# Altium integrated library Analog Devices Data Converters Digital-to-Analog Converters.IntLib: 2231 symbols (part 2 of 181)
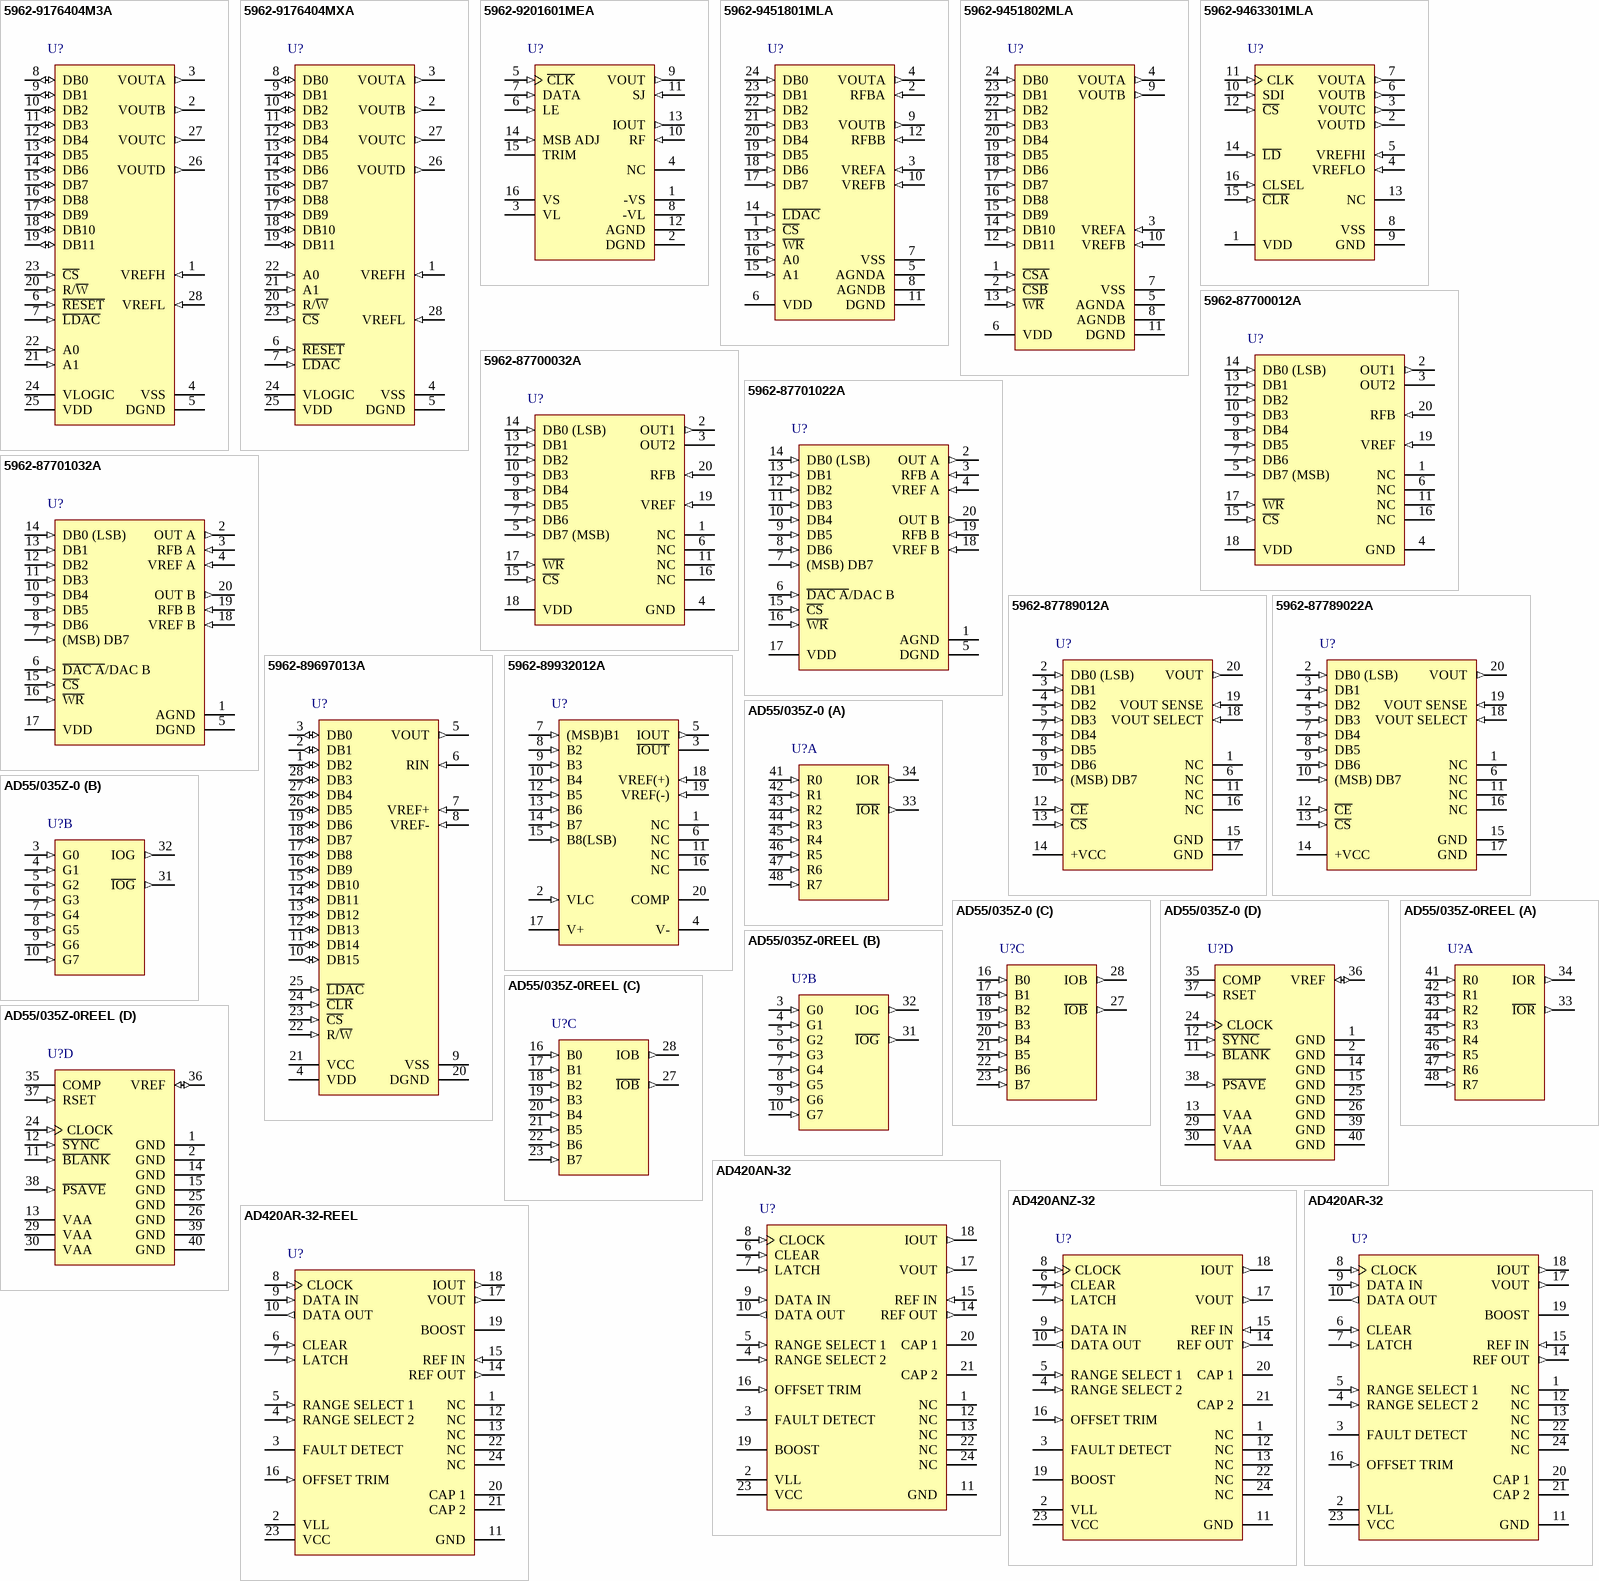
[diagram p115: symbols 5962-9176404M3A to AD420AR-32-REEL]

## 5962-9451801MLA
designator U?
Dual 12-Bit LC2MOS Complete MDAC, -55 to +125 degC, Q-24-1, Tube; Generic Part Number: AD7837; Manufacturer: Analog Devices; PartNumber: 5962-9451801MLA; # DAC Outputs: 2; Max V+: 15.75V; Op Pwr Diss: 210mW; Resolution (Bits): 12; Settling Time: 4µs; Single Supply: No; DatasheetVersion: C01007a-0-8/00 (rev. C); PackageVersion: 100808-A; PackageReference: Q-24-1; PackageDescription: 24-Lead Ceramic Dual In-Line Package [CERDIP]; Supplier 1: Mouser; Supplier Part Number 1: 584-5962-9451801MLA; Packing: Tube; RoHS: N; Mounting Technology: Through Hole; ComponentLink1Description: Manufacturer URL; ComponentLink1URL: http://www.analog.com/en/index.html; ComponentLink2Description: Datasheet; ComponentLink2URL: http://www.analog.com/static/imported-files/data_sheets/AD7837_7847.pdf; ComponentLink3Description: Package Specification; ComponentLink3URL: http://www.analog.com/static/imported-files/packages/PKG_PDF/CERDIP(Q)/Q_24_1.pdf; ComponentLink4Description: Product URL; ComponentLink4URL: http://www.analog.com/en/digital-to-analog-converters/da-converters/ad7837/products/product.html
footprint Q-24-1 (DIP, 24-Leads, Row Spacing 7.62mm, Pitch 2.54mm, Body 31.9x6.7mm)
pins: 1 ~{CS} (in) "Chip Select. Active low logic input. The device is selected when this input is active.", 2 RFBA (in) "Amplifier Feedback Resistor for DAC A.", 3 VREFA (in) "Reference Input Voltage for DAC A. This may be an ac or dc signal.", 4 VOUTA (out) "Analog Output Voltage from DAC A.", 5 AGNDA (power) "Analog Ground for DAC A.", 6 VDD (power) "Positive Power Supply.", 7 VSS (power) "Negative Power Supply.", 8 AGNDB (power) "Analog Ground for DAC B.", 9 VOUTB (out) "Analog Output Voltage from DAC B.", 10 VREFB (in) "Reference Input Voltage for DAC B. This may be an ac or dc signal.", 11 DGND (power) "Digital Ground. Ground reference for digital circuitry.", 12 RFBB (in) "Amplifier Feedback Resistor for DAC B.", 13 ~{WR} (in) "Write Input. W\R\ is an active low logic input which is used in conjunction with C\S\, A0 and A1 to write data to the input latches.", 14 ~{LDAC} (in) "DAC Update Logic Input. Data is transferred from the input latches to the DAC latches when L\D\A\C\ is taken low.", 15 A1 (in) "Address Input. Most significant address input for input latches (see Table II).", 16 A0 (in) "Address Input. Least significant address input for input latches (see Table II).", 17 DB7 (in) "Data Bit 7.", 18 DB6 (in) "Data Bit 6.", 19 DB5 (in) "Data Bit 5.", 20 DB4 (in) "Data Bit 4.", 21 DB3 (in) "Data Bit 3 or Data Bit 11 (MSB)", 22 DB2 (in) "Data Bit 2 or Data Bit 10", 23 DB1 (in) "Data Bit 1 or Data Bit 9", 24 DB0 (in) "Data Bit 0 (LSB) or Data Bit 8"

## 5962-9451802MLA
designator U?
Dual 12-Bit LC2MOS Complete MDAC, -55 to +125 degC, Q-24-1, Tube; Generic Part Number: AD7847; Manufacturer: Analog Devices; PartNumber: 5962-9451802MLA; # DAC Outputs: 2; Max V+: 15.75V; Op Pwr Diss: 210mW; Resolution (Bits): 12; Settling Time: 4µs; Single Supply: No; DatasheetVersion: C01007a-0-8/00 (rev. C); PackageVersion: 100808-A; PackageReference: Q-24-1; PackageDescription: 24-Lead Ceramic Dual In-Line Package [CERDIP]; Supplier 1: Mouser; Supplier Part Number 1: 584-5962-9451802MLA; Packing: Tube; RoHS: N; Mounting Technology: Through Hole; ComponentLink1Description: Manufacturer URL; ComponentLink1URL: http://www.analog.com/en/index.html; ComponentLink2Description: Datasheet; ComponentLink2URL: http://www.analog.com/static/imported-files/data_sheets/AD7837_7847.pdf; ComponentLink3Description: Package Specification; ComponentLink3URL: http://www.analog.com/static/imported-files/packages/PKG_PDF/CERDIP(Q)/Q_24_1.pdf; ComponentLink4Description: Product URL; ComponentLink4URL: http://www.analog.com/en/digital-to-analog-converters/da-converters/ad7847/products/product.html
footprint Q-24-1 (DIP, 24-Leads, Row Spacing 7.62mm, Pitch 2.54mm, Body 31.9x6.7mm)
pins: 1 ~{CSA} (in) "Chip Select Input for DAC A. Active low logic input. DAC A is selected when this input is low.", 2 ~{CSB} (in) "Chip Select Input for DAC B. Active low logic input. DAC B is selected when this input is low.", 3 VREFA (in) "Reference Input Voltage for DAC A. This may be an ac or dc signal.", 4 VOUTA (out) "Analog Output Voltage from DAC A.", 5 AGNDA (power) "Analog Ground for DAC A.", 6 VDD (power) "Positive Power Supply.", 7 VSS (power) "Negative Power Supply.", 8 AGNDB (power) "Analog Ground for DAC B.", 9 VOUTB (out) "Analog Output Voltage from DAC B.", 10 VREFB (in) "Reference Input Voltage for DAC B. This may be an ac or dc signal.", 11 DGND (power) "Digital Ground.", 12 DB11 (in) "Data Bit 11 (MSB).", 13 ~{WR} (in) "Write Input. W\R\ is a positive edge triggered input which is used in conjunction with C\S\A\ and C\S\B\ to write data to the DAC latches.", 14 DB10 (in) "Data Bit 10.", 15 DB9 (in) "Data Bit 9.", 16 DB8 (in) "Data Bit 8.", 17 DB7 (in) "Data Bit 7.", 18 DB6 (in) "Data Bit 6.", 19 DB5 (in) "Data Bit 5.", 20 DB4 (in) "Data Bit 4.", 21 DB3 (in) "Data Bit 3.", 22 DB2 (in) "Data Bit 2.", 23 DB1 (in) "Data Bit 1.", 24 DB0 (in) "Data Bit 0 (LSB)."

## 5962-9463301MLA
designator U?
Single 16-Bit Monolithic DACPORT, 0 to +70 degC, Q-24, Tube; Generic Part Number: AD660; Manufacturer: Analog Devices; PartNumber: 5962-9463301MLA; # DAC Outputs: 1; Max V+: 16.5V; Op Pwr Diss: 625mW; Resolution (Bits): 16; Settling Time: 6µs; Single Supply: No; DatasheetVersion: Rev.B; PackageVersion: 2000; PackageReference: Q-24; PackageDescription: 24-Lead Ceramic Dual In-Line Package [CERDIP]; Supplier 1: Mouser; Supplier Part Number 1: 584-5962-9463301MLA; Packing: Tube; RoHS: N; Mounting Technology: Through Hole; ComponentLink1Description: Manufacturer URL; ComponentLink1URL: http://www.analog.com/en/index.html; ComponentLink2Description: Datasheet; ComponentLink2URL: http://www.analog.com/static/imported-files/data_sheets/AD660.pdf; ComponentLink3Description: Package Specification; ComponentLink3URL: http://www.analog.com/static/imported-files/data_sheets/AD7837_7847.pdf; ComponentLink4Description: Product URL; ComponentLink4URL: http://www.analog.com/en/digital-to-analog-converters/da-converters/ad660/products/product.html
footprint Q-24 (DIP, 24-Leads, Row Spacing 7.62mm, Pitch 2.54mm, Body 31.9x6.7mm)
pins: 1 VDD (power) "Positive Power Supply, 5 V to 15 V.", 2 VOUTD (out) "Buffered DAC Analog Voltage Outputs.", 3 VOUTC (out) "Buffered DAC Analog Voltage Outputs.", 4 VREFLO (in) "Reference Input. Lower DAC ladder reference voltage input, equal to zero-scale output. Allowable range is VSS to (VVREFHI - 2.5 V).", 5 VREFHI (in) "Reference Input. Upper DAC ladder reference voltage input. Allowable range is (VDD - 2.5 V) to ( VVREFLO + 2.5 V).", 6 VOUTB (out) "Buffered DAC Analog Voltage Outputs.", 7 VOUTA (out) "Buffered DAC Analog Voltage Outputs.", 8 VSS (power) "Negative Power Supply, 0 V to -15 V.", 9 GND (power) "Power Supply, Digital Ground.", 10 SDI (in) "Serial Data Input. Data presented to this pin is loaded into the internal serial-parallel shift register, which shifts data in, beginning with DAC Address Bit A1. This input is ignored when C\S\ is high. SDI is CMOS/TTL (See Datasheet)", 11 CLK (in) "System Serial Data Clock Input, TTL/CMOS Levels. Data presented to the input SDI is shifted into the internal serial-parallel input register on the rising edge of clock. This input is logically OR’ed with C\S\.", 12 ~{CS} (in) "Control Input, Device Chip Select, Active Low. This input is logically OR’ed with the clock and disables the serial data register input when high. When low, data input clocking is enabled (see Table 6). C\S\ is CMOS/TTL (See Datasheet)", 13 NC "No Connect = Don’t Care.", 14 ~{LD} (in) "Control Input, Asynchronous DAC Register Load Control, Active Low. The data currently contained in the serial input shift register is shifted out to the DAC data registers on the falling edge of L\D\, independent of C\S\. (See Datasheet)", 15 ~{CLR} (in) "Control Input, Asynchronous Clear, Active Low. Sets internal data Register A through Register D to zero or midscale, depending on current state of CLSEL. The data in the serial input shift register is unaffected by this (See Datasheet)", 16 CLSEL (in) "Control Input, Determines action of C\L\R\. If high, a clear command sets the internal DAC Register A through Register D to midscale (0x800). If low, the registers are set to zero (0x000). CLSEL is CMOS/TTL compatible."

## 5962-87700012A
designator U?
Single 8-Bit Microcircuit Monolithic Silicon Digital-to-Analog Converter, -55 to +125 degC, E-20-1, Tube; Generic Part Number: AD7524; Manufacturer: Analog Devices; PartNumber: 5962-87700012A; # DAC Outputs: 1; Max V+: 15V; Op Pwr Diss: 30mW; Resolution (Bits): 8; Settling Time: 250ns; Single Supply: Yes; DatasheetVersion: Rev.B; PackageVersion: 022106-A; PackageReference: E-20-1; PackageDescription: 20-Terminal Ceramic Leadless Chip Carrier [LCC]; Supplier 1: Mouser; Supplier Part Number 1: 584-5962-87700012A; Packing: Tube; RoHS: N; Mounting Technology: Surface Mount; ComponentLink1Description: Manufacturer URL; ComponentLink1URL: http://www.analog.com/en/index.html; ComponentLink2Description: Datasheet; ComponentLink2URL: http://www.dscc.dla.mil/downloads/milspec/smd/87700.pdf; ComponentLink3Description: Package Specification; ComponentLink3URL: http://www.analog.com/static/imported-files/packages/PKG_PDF/LCC(E)/E_20_1.pdf; ComponentLink4Description: Product URL; ComponentLink4URL: http://www.analog.com/en/digital-to-analog-converters/da-converters/ad7524/products/product.html
footprint E-20-1_N (Leadless Chip Carrier, 20-Leads, Body 8.9x8.9mm, Pitch 1.27mm, IPC Medium Density)
footprint E-20-1_L (Leadless Chip Carrier, 20-Leads, Body 8.9x8.9mm, Pitch 1.27mm, IPC High Density)
footprint E-20-1_M (Leadless Chip Carrier, 20-Leads, Body 8.9x8.9mm, Pitch 1.27mm, IPC Low Density)
pins: 1 NC, 2 OUT1 (out), 3 OUT2, 4 GND (power), 5 DB7 (MSB) (in), 6 NC, 7 DB6 (in), 8 DB5 (in), 9 DB4 (in), 10 DB3 (in), 11 NC, 12 DB2 (in), 13 DB1 (in), 14 DB0 (LSB) (in), 15 ~{CS} (in), 16 NC, 17 ~{WR} (in), 18 VDD (power), 19 VREF (in), 20 RFB (in)

## 5962-87700032A
designator U?
Single 8-Bit Microcircuit Monolithic Silicon Digital-to-Analog Converter, -55 to +125 degC, E-20-1, Tube; Generic Part Number: AD7524; Manufacturer: Analog Devices; PartNumber: 5962-87700032A; # DAC Outputs: 1; Max V+: 15V; Op Pwr Diss: 30mW; Resolution (Bits): 8; Settling Time: 250ns; Single Supply: Yes; DatasheetVersion: Rev.B; PackageVersion: 022106-A; PackageReference: E-20-1; PackageDescription: 20-Terminal Ceramic Leadless Chip Carrier [LCC]; Supplier 1: Mouser; Supplier Part Number 1: 584-5962-87700032A; Packing: Tube; RoHS: N; Mounting Technology: Surface Mount; ComponentLink1Description: Manufacturer URL; ComponentLink1URL: http://www.analog.com/en/index.html; ComponentLink2Description: Datasheet; ComponentLink2URL: http://www.dscc.dla.mil/downloads/milspec/smd/87700.pdf; ComponentLink3Description: Package Specification; ComponentLink3URL: http://www.analog.com/static/imported-files/packages/PKG_PDF/LCC(E)/E_20_1.pdf; ComponentLink4Description: Product URL; ComponentLink4URL: http://www.analog.com/en/digital-to-analog-converters/da-converters/ad7524/products/product.html
footprint E-20-1_N (Leadless Chip Carrier, 20-Leads, Body 8.9x8.9mm, Pitch 1.27mm, IPC Medium Density)
footprint E-20-1_L (Leadless Chip Carrier, 20-Leads, Body 8.9x8.9mm, Pitch 1.27mm, IPC High Density)
footprint E-20-1_M (Leadless Chip Carrier, 20-Leads, Body 8.9x8.9mm, Pitch 1.27mm, IPC Low Density)
pins: 1 NC, 2 OUT1 (out), 3 OUT2, 4 GND (power), 5 DB7 (MSB) (in), 6 NC, 7 DB6 (in), 8 DB5 (in), 9 DB4 (in), 10 DB3 (in), 11 NC, 12 DB2 (in), 13 DB1 (in), 14 DB0 (LSB) (in), 15 ~{CS} (in), 16 NC, 17 ~{WR} (in), 18 VDD (power), 19 VREF (in), 20 RFB (in)

## 5962-87701022A
designator U?
Dual 8-Bit Buffered Multiplying CMOS Digital-to-Analog Converter, -55 to +125 degC, P-20A, Tube; Generic Part Number: AD7528; Manufacturer: Analog Devices; PartNumber: 5962-87701022A; # DAC Outputs: 2; Max V+: 15V; Op Pwr Diss: 30mW; Resolution (Bits): 8; Settling Time: 180ns; Single Supply: Yes; DatasheetVersion: Rev.B; PackageVersion: Nov-2002; PackageReference: P-20A; PackageDescription: 20-Lead Plastic Leaded Chip Carrier [PLCC]; Supplier 1: Mouser; Supplier Part Number 1: 584-5962-87701022A; Packing: Tube; RoHS: N; Mounting Technology: Surface Mount; Code_JEDEC: MO-047-AA; ComponentLink1Description: Manufacturer URL; ComponentLink1URL: http://www.analog.com/en/index.html; ComponentLink2Description: Datasheet; ComponentLink2URL: http://www.analog.com/static/imported-files/data_sheets/AD7528.pdf; ComponentLink3Description: Package Specification; ComponentLink3URL: http://www.analog.com/static/imported-files/packages/3121431516544404277643669223804694P20A.pdf; ComponentLink4Description: Product URL; ComponentLink4URL: http://www.analog.com/en/digital-to-analog-converters/da-converters/ad7528/products/product.html
footprint P-20A_N (Leaded Chip Carrier, 20-Leads, Body 9x9mm, Pitch 1.27mm, IPC Medium Density)
footprint P-20A_L (Leaded Chip Carrier, 20-Leads, Body 9x9mm, Pitch 1.27mm, IPC High Density)
footprint P-20A_M (Leaded Chip Carrier, 20-Leads, Body 9x9mm, Pitch 1.27mm, IPC Low Density)
pins: 1 AGND (power), 2 OUT A (out), 3 RFB A (in), 4 VREF A (in), 5 DGND (power), 6 ~{DAC A}/DAC B (in), 7 (MSB) DB7 (in), 8 DB6 (in), 9 DB5 (in), 10 DB4 (in), 11 DB3 (in), 12 DB2 (in), 13 DB1 (in), 14 DB0 (LSB) (in), 15 ~{CS} (in), 16 ~{WR} (in), 17 VDD (power), 18 VREF B (in), 19 RFB B (in), 20 OUT B (out)

## 5962-87701032A
designator U?
Dual 8-Bit Buffered Multiplying CMOS Digital-to-Analog Converter, -55 to +125 degC, Q-20, Tube; Generic Part Number: AD7528; Manufacturer: Analog Devices; PartNumber: 5962-87701032A; # DAC Outputs: 2; Max V+: 15V; Op Pwr Diss: 30mW; Resolution (Bits): 8; Settling Time: 180ns; Single Supply: Yes; DatasheetVersion: Rev.B; PackageVersion: Dec-2004; PackageReference: Q-20; PackageDescription: 20-Lead Ceramic Dual In-Line Package [CERDIP]; Supplier 1: Mouser; Supplier Part Number 1: 584-5962-87701032A; Packing: Tube; RoHS: N; Mounting Technology: Through Hole; ComponentLink1Description: Manufacturer URL; ComponentLink1URL: http://www.analog.com/en/index.html; ComponentLink2Description: Datasheet; ComponentLink2URL: http://www.analog.com/static/imported-files/data_sheets/AD7528.pdf; ComponentLink3Description: Package Specification; ComponentLink3URL: http://www.analog.com/static/imported-files/packages/50516416473314Q_20.pdf; ComponentLink4Description: Product URL; ComponentLink4URL: http://www.analog.com/en/digital-to-analog-converters/da-converters/ad7528/products/product.html
footprint Q-20 (DIP, 20-Leads, Row Spacing 7.62mm, Pitch 2.54mm, Body 25.9x6.7mm)
pins: 1 AGND (power), 2 OUT A (out), 3 RFB A (in), 4 VREF A (in), 5 DGND (power), 6 ~{DAC A}/DAC B (in), 7 (MSB) DB7 (in), 8 DB6 (in), 9 DB5 (in), 10 DB4 (in), 11 DB3 (in), 12 DB2 (in), 13 DB1 (in), 14 DB0 (LSB) (in), 15 ~{CS} (in), 16 ~{WR} (in), 17 VDD (power), 18 VREF B (in), 19 RFB B (in), 20 OUT B (out)

## 5962-87789012A
designator U?
Single 8-Bit Low Cost Complete uP-Compatible DACPORT, -55 to +125 degC, E-20-1, Tube; Generic Part Number: AD558; Manufacturer: Analog Devices; PartNumber: 5962-87789012A; # DAC Outputs: 1; Max V+: 16.5V; Op Pwr Diss: 375mW; Resolution (Bits): 8; Settling Time: 800ns; Single Supply: Yes; DatasheetVersion: Rev.A; PackageVersion: 022106-A; PackageReference: E-20-1; PackageDescription: 20-Terminal Ceramic Leadless Chip Carrier [LCC]; Supplier 1: Mouser; Supplier Part Number 1: 584-5962-87789012A; Packing: Tube; RoHS: N; Mounting Technology: Surface Mount; ComponentLink1Description: Manufacturer URL; ComponentLink1URL: http://www.analog.com/en/index.html; ComponentLink2Description: Datasheet; ComponentLink2URL: http://www.analog.com/static/imported-files/data_sheets/AD558.pdf; ComponentLink3Description: Package Specification; ComponentLink3URL: http://www.analog.com/static/imported-files/packages/PKG_PDF/LCC(E)/E_20_1.pdf; ComponentLink4Description: Product URL; ComponentLink4URL: http://www.analog.com/en/digital-to-analog-converters/da-converters/ad558/products/product.html
footprint E-20-1_N (Leadless Chip Carrier, 20-Leads, Body 8.9x8.9mm, Pitch 1.27mm, IPC Medium Density)
footprint E-20-1_L (Leadless Chip Carrier, 20-Leads, Body 8.9x8.9mm, Pitch 1.27mm, IPC High Density)
footprint E-20-1_M (Leadless Chip Carrier, 20-Leads, Body 8.9x8.9mm, Pitch 1.27mm, IPC Low Density)
pins: 1 NC, 2 DB0 (LSB) (in), 3 DB1 (in), 4 DB2 (in), 5 DB3 (in), 6 NC, 7 DB4 (in), 8 DB5 (in), 9 DB6 (in), 10 (MSB) DB7 (in), 11 NC, 12 ~{CE} (in), 13 ~{CS} (in), 14 +VCC (power), 15 GND (power), 16 NC, 17 GND (power), 18 VOUT SELECT (in), 19 VOUT SENSE (in), 20 VOUT (out)

## 5962-87789022A
designator U?
Single 8-Bit Low Cost Complete uP-Compatible DACPORT, -55 to +125 degC, E-20-1, Tube; Generic Part Number: AD558; Manufacturer: Analog Devices; PartNumber: 5962-87789022A; # DAC Outputs: 1; Max V+: 16.5V; Op Pwr Diss: 375mW; Resolution (Bits): 8; Settling Time: 800ns; Single Supply: Yes; DatasheetVersion: Rev.A; PackageVersion: 022106-A; PackageReference: E-20-1; PackageDescription: 20-Terminal Ceramic Leadless Chip Carrier [LCC]; Supplier 1: Mouser; Supplier Part Number 1: 584-5962-87789022A; Packing: Tube; RoHS: N; Mounting Technology: Surface Mount; ComponentLink1Description: Manufacturer URL; ComponentLink1URL: http://www.analog.com/en/index.html; ComponentLink2Description: Datasheet; ComponentLink2URL: http://www.analog.com/static/imported-files/data_sheets/AD558.pdf; ComponentLink3Description: Package Specification; ComponentLink3URL: http://www.analog.com/static/imported-files/packages/PKG_PDF/LCC(E)/E_20_1.pdf; ComponentLink4Description: Product URL; ComponentLink4URL: http://www.analog.com/en/digital-to-analog-converters/da-converters/ad558/products/product.html
footprint E-20-1_N (Leadless Chip Carrier, 20-Leads, Body 8.9x8.9mm, Pitch 1.27mm, IPC Medium Density)
footprint E-20-1_L (Leadless Chip Carrier, 20-Leads, Body 8.9x8.9mm, Pitch 1.27mm, IPC High Density)
footprint E-20-1_M (Leadless Chip Carrier, 20-Leads, Body 8.9x8.9mm, Pitch 1.27mm, IPC Low Density)
pins: 1 NC, 2 DB0 (LSB) (in), 3 DB1 (in), 4 DB2 (in), 5 DB3 (in), 6 NC, 7 DB4 (in), 8 DB5 (in), 9 DB6 (in), 10 (MSB) DB7 (in), 11 NC, 12 ~{CE} (in), 13 ~{CS} (in), 14 +VCC (power), 15 GND (power), 16 NC, 17 GND (power), 18 VOUT SELECT (in), 19 VOUT SENSE (in), 20 VOUT (out)

## 5962-89697013A
designator U?
Single 16-Bit Microcircuit Monolithic Silicon Digital-to-Analog Converter, -55 to +125 degC, E-28-1, Tube; Generic Part Number: AD7846; Manufacturer: Analog Devices; PartNumber: 5962-89697013A; # DAC Outputs: 1; Max V+: 15.75V; Op Pwr Diss: 155mW; Resolution (Bits): 16; Settling Time: 7µs; Single Supply: No; DatasheetVersion: Rev.B; PackageVersion: 022106-A; PackageReference: E-28-1; PackageDescription: 28-Terminal Ceramic Leadless Chip Carrier [LCC]; Supplier 1: Mouser; Supplier Part Number 1: 584-5962-89697013A; Packing: Tube; RoHS: N; Mounting Technology: Surface Mount; ComponentLink1Description: Manufacturer URL; ComponentLink1URL: http://www.analog.com/en/index.html; ComponentLink2Description: Datasheet; ComponentLink2URL: http://www.dscc.dla.mil/downloads/milspec/smd/89697.pdf; ComponentLink3Description: Package Specification; ComponentLink3URL: http://www.analog.com/static/imported-files/packages/PKG_PDF/LCC(E)/E_28_1.pdf; ComponentLink4Description: Product URL; ComponentLink4URL: http://www.analog.com/en/digital-to-analog-converters/da-converters/ad7846/products/product.html
footprint E-28-1_N (Leadless Chip Carrier, 28-Leads, Body 11.4x11.4mm, Pitch 1.27mm, IPC Medium Density)
footprint E-28-1_L (Leadless Chip Carrier, 28-Leads, Body 11.4x11.4mm, Pitch 1.27mm, IPC High Density)
footprint E-28-1_M (Leadless Chip Carrier, 28-Leads, Body 11.4x11.4mm, Pitch 1.27mm, IPC Low Density)
pins: 1 DB2 (io) "Data I/O.", 2 DB1 (io) "Data I/O.", 3 DB0 (io) "Data I/O. DB0 is LSB.", 4 VDD (power) "Positive Supply for Analog Circuitry. This is +15 V nominal.", 5 VOUT (out) "DAC Output Voltage.", 6 RIN (in) "Input to Summing Resistor of DAC Output Amplifier. This is used to select output voltage ranges. See Table 6.", 7 VREF+ (in) "VREF+ Input. The DAC is specified for VREF+ = +5 V.", 8 VREF- (in) "VREF- Input. For unipolar operation connect VREF- to 0 V, and for bipolar operation connect it to -5 V. The device is specified for both conditions.", 9 VSS (power) "Negative Supply for the Analog Circuitry. This is -15 V nominal.", 10 DB15 (io) "Data I/O. DB15 is MSB.", 11 DB14 (io) "Data I/O.", 12 DB13 (io) "Data I/O.", 13 DB12 (io) "Data I/O.", 14 DB11 (io) "Data I/O.", 15 DB10 (io) "Data I/O.", 16 DB9 (io) "Data I/O.", 17 DB8 (io) "Data I/O.", 18 DB7 (io) "Data I/O.", 19 DB6 (io) "Data I/O.", 20 DGND (power) "Ground for Digital Circuitry.", 21 VCC (power) "Positive Supply for Digital Circuitry. This is +5 V nominal.", 22 R/~{W} (in) "R/W\ Input. This pin can be used to load data to the DAC or to read back the DAC latch contents.", 23 ~{CS} (in) "Chip Select Input. This pin selects the device.", 24 ~{CLR} (in) "Clear Input. The DAC can be cleared to 000...000 or 100...000. See Table 7.", 25 ~{LDAC} (in) "Asynchronous Load Input to DAC.", 26 DB5 (io) "Data I/O.", 27 DB4 (io) "Data I/O.", 28 DB3 (io) "Data I/O."

## 5962-89932012A
designator U?
Single 8-Bit Microcircuit Digital-Liner Digital-to-Analog Converter, -55 to +125 degC, E-20-1, Tube; Generic Part Number: DAC08; Manufacturer: Analog Devices; PartNumber: 5962-89932012A; # DAC Outputs: 1; Max V+: 18V; Op Pwr Diss: 33mW; Resolution (Bits): 8; Settling Time: 85ns; Single Supply: No; DatasheetVersion: Rev.G; PackageVersion: 022106-A; PackageReference: E-20-1; PackageDescription: 20-Terminal Ceramic Leadless Chip Carrier [LCC]; Supplier 1: Mouser; Supplier Part Number 1: 584-5962-89932012A; Packing: Tube; RoHS: N; Mounting Technology: Surface Mount; ComponentLink1Description: Manufacturer URL; ComponentLink1URL: http://www.analog.com/en/index.html; ComponentLink2Description: Datasheet; ComponentLink2URL: http://www.dscc.dla.mil/Downloads/MilSpec/Smd/89932.pdf; ComponentLink3Description: Package Specification; ComponentLink3URL: http://www.analog.com/static/imported-files/packages/PKG_PDF/LCC(E)/E_20_1.pdf; ComponentLink4Description: Product URL; ComponentLink4URL: http://www.analog.com/en/digital-to-analog-converters/da-converters/dac08/products/product.html
footprint E-20-1_N (Leadless Chip Carrier, 20-Leads, Body 8.9x8.9mm, Pitch 1.27mm, IPC Medium Density)
footprint E-20-1_L (Leadless Chip Carrier, 20-Leads, Body 8.9x8.9mm, Pitch 1.27mm, IPC High Density)
footprint E-20-1_M (Leadless Chip Carrier, 20-Leads, Body 8.9x8.9mm, Pitch 1.27mm, IPC Low Density)
pins: 1 NC, 2 VLC (in), 3 ~{IOUT}, 4 V- (power), 5 IOUT (out), 6 NC, 7 (MSB)B1 (in), 8 B2 (in), 9 B3 (in), 10 B4 (in), 11 NC, 12 B5 (in), 13 B6 (in), 14 B7 (in), 15 B8(LSB) (in), 16 NC, 17 V+ (power), 18 VREF(+) (in), 19 VREF(-) (in), 20 COMP

## AD55/035Z-0
designator U?
3 Channel 8-Bit CMOS High Speed Video Digital-to-Analog Converter, -40 to +85 degC, ST-48, Pb-Free, Tray; Generic Part Number: ADV7125; Manufacturer: Analog Devices; PartNumber: AD55/035Z-0; # DAC Outputs: 3; Max V+: 5.25V; Op Pwr Diss: 485mW; Resolution (Bits): 8; Single Supply: No; DatasheetVersion: Rev.C; PackageVersion: revA; PackageReference: ST-48; PackageDescription: 48-Pin Thin Quad Flat Pack 0.5 mm Pitch; Supplier 1: Mouser; Supplier Part Number 1: N/A; Packing: Tray; RoHS: Y; Mounting Technology: Surface Mount; ComponentLink1Description: Manufacturer URL; ComponentLink1URL: http://www.analog.com/en/index.html; ComponentLink2Description: Datasheet; ComponentLink2URL: http://www.analog.com/static/imported-files/data_sheets/ADV7125.pdf; ComponentLink3Description: Package Specification; ComponentLink3URL: http://www.analog.com/static/imported-files/packages/PKG_PDF/LQFP%28ST%29/ST_48.pdf; ComponentLink4Description: Product URL; ComponentLink4URL: http://www.analog.com/en/digital-to-analog-converters/da-converters/adv7125/products/product.html
footprint ST-48_N (Thin QFP, 48-Leads, Body 7x7mm, Pitch 0.5mm, IPC Medium Density)
footprint ST-48_L (Thin QFP, 48-Leads, Body 7x7mm, Pitch 0.5mm, IPC High Density)
footprint ST-48_M (Thin QFP, 48-Leads, Body 7x7mm, Pitch 0.5mm, IPC Low Density)
part A pins: 33 ~{IOR} (out) "Differential Red, Green, and Blue Current Outputs (High Impedance Current Sources). These RGB video outputs are specified to directly drive RS-343A and RS-170 video levels into a doubly terminated 75 ohm load. If the (See Datasheet)", 34 IOR (out) "Red, Green, and Blue Current Outputs. These high impedance current sources are capable of directly driving a doubly terminated 75 ohm coaxial cable. All three current outputs should have similar output loads whether or not (See Datasheet)", 41 R0 (in) "Red Pixel Data Inputs (TTL Compatible). Pixel data is latched on the rising edge of CLOCK. R0, G0, and B0 are the least significant data bits. Unused pixel data inputs should be connected to either the regular printed (See Datasheet)", 42 R1 (in) "Red Pixel Data Inputs (TTL Compatible). Pixel data is latched on the rising edge of CLOCK. R0, G0, and B0 are the least significant data bits. Unused pixel data inputs should be connected to either the regular printed (See Datasheet)", 43 R2 (in) "Red Pixel Data Inputs (TTL Compatible). Pixel data is latched on the rising edge of CLOCK. R0, G0, and B0 are the least significant data bits. Unused pixel data inputs should be connected to either the regular printed (See Datasheet)", 44 R3 (in) "Red Pixel Data Inputs (TTL Compatible). Pixel data is latched on the rising edge of CLOCK. R0, G0, and B0 are the least significant data bits. Unused pixel data inputs should be connected to either the regular printed (See Datasheet)", 45 R4 (in) "Red Pixel Data Inputs (TTL Compatible). Pixel data is latched on the rising edge of CLOCK. R0, G0, and B0 are the least significant data bits. Unused pixel data inputs should be connected to either the regular printed (See Datasheet)", 46 R5 (in) "Red Pixel Data Inputs (TTL Compatible). Pixel data is latched on the rising edge of CLOCK. R0, G0, and B0 are the least significant data bits. Unused pixel data inputs should be connected to either the regular printed (See Datasheet)", 47 R6 (in) "Red Pixel Data Inputs (TTL Compatible). Pixel data is latched on the rising edge of CLOCK. R0, G0, and B0 are the least significant data bits. Unused pixel data inputs should be connected to either the regular printed (See Datasheet)", 48 R7 (in) "Red Pixel Data Inputs (TTL Compatible). Pixel data is latched on the rising edge of CLOCK. R0, G0, and B0 are the least significant data bits. Unused pixel data inputs should be connected to either the regular printed (See Datasheet)"
part B pins: 3 G0 (in) "Green Pixel Data Inputs (TTL Compatible). Pixel data is latched on the rising edge of CLOCK. R0, G0, and B0 are the least significant data bits. Unused pixel data inputs should be connected to either the regular printed (See Datasheet)", 4 G1 (in) "Green Pixel Data Inputs (TTL Compatible). Pixel data is latched on the rising edge of CLOCK. R0, G0, and B0 are the least significant data bits. Unused pixel data inputs should be connected to either the regular printed (See Datasheet)", 5 G2 (in) "Green Pixel Data Inputs (TTL Compatible). Pixel data is latched on the rising edge of CLOCK. R0, G0, and B0 are the least significant data bits. Unused pixel data inputs should be connected to either the regular printed (See Datasheet)", 6 G3 (in) "Green Pixel Data Inputs (TTL Compatible). Pixel data is latched on the rising edge of CLOCK. R0, G0, and B0 are the least significant data bits. Unused pixel data inputs should be connected to either the regular printed (See Datasheet)", 7 G4 (in) "Green Pixel Data Inputs (TTL Compatible). Pixel data is latched on the rising edge of CLOCK. R0, G0, and B0 are the least significant data bits. Unused pixel data inputs should be connected to either the regular printed (See Datasheet)", 8 G5 (in) "Green Pixel Data Inputs (TTL Compatible). Pixel data is latched on the rising edge of CLOCK. R0, G0, and B0 are the least significant data bits. Unused pixel data inputs should be connected to either the regular printed (See Datasheet)", 9 G6 (in) "Green Pixel Data Inputs (TTL Compatible). Pixel data is latched on the rising edge of CLOCK. R0, G0, and B0 are the least significant data bits. Unused pixel data inputs should be connected to either the regular printed (See Datasheet)", 10 G7 (in) "Green Pixel Data Inputs (TTL Compatible). Pixel data is latched on the rising edge of CLOCK. R0, G0, and B0 are the least significant data bits. Unused pixel data inputs should be connected to either the regular printed (See Datasheet)", 31 ~{IOG} (out) "Differential Red, Green, and Blue Current Outputs (High Impedance Current Sources). These RGB video outputs are specified to directly drive RS-343A and RS-170 video levels into a doubly terminated 75 ohm load. If the (See Datasheet)", 32 IOG (out) "Red, Green, and Blue Current Outputs. These high impedance current sources are capable of directly driving a doubly terminated 75 ohm coaxial cable. All three current outputs should have similar output loads whether or not (See Datasheet)"
part C pins: 16 B0 (in) "Blue Pixel Data Inputs (TTL Compatible). Pixel data is latched on the rising edge of CLOCK. R0, G0, and B0 are the least significant data bits. Unused pixel data inputs should be connected to either the regular printed (See Datasheet)", 17 B1 (in) "Blue Pixel Data Inputs (TTL Compatible). Pixel data is latched on the rising edge of CLOCK. R0, G0, and B0 are the least significant data bits. Unused pixel data inputs should be connected to either the regular printed (See Datasheet)", 18 B2 (in) "Blue Pixel Data Inputs (TTL Compatible). Pixel data is latched on the rising edge of CLOCK. R0, G0, and B0 are the least significant data bits. Unused pixel data inputs should be connected to either the regular printed (See Datasheet)", 19 B3 (in) "Blue Pixel Data Inputs (TTL Compatible). Pixel data is latched on the rising edge of CLOCK. R0, G0, and B0 are the least significant data bits. Unused pixel data inputs should be connected to either the regular printed (See Datasheet)", 20 B4 (in) "Blue Pixel Data Inputs (TTL Compatible). Pixel data is latched on the rising edge of CLOCK. R0, G0, and B0 are the least significant data bits. Unused pixel data inputs should be connected to either the regular printed (See Datasheet)", 21 B5 (in) "Blue Pixel Data Inputs (TTL Compatible). Pixel data is latched on the rising edge of CLOCK. R0, G0, and B0 are the least significant data bits. Unused pixel data inputs should be connected to either the regular printed (See Datasheet)", 22 B6 (in) "Blue Pixel Data Inputs (TTL Compatible). Pixel data is latched on the rising edge of CLOCK. R0, G0, and B0 are the least significant data bits. Unused pixel data inputs should be connected to either the regular printed (See Datasheet)", 23 B7 (in) "Blue Pixel Data Inputs (TTL Compatible). Pixel data is latched on the rising edge of CLOCK. R0, G0, and B0 are the least significant data bits. Unused pixel data inputs should be connected to either the regular printed (See Datasheet)", 27 ~{IOB} (out) "Differential Red, Green, and Blue Current Outputs (High Impedance Current Sources). These RGB video outputs are specified to directly drive RS-343A and RS-170 video levels into a doubly terminated 75 ohm load. If the (See Datasheet)", 28 IOB (out) "Red, Green, and Blue Current Outputs. These high impedance current sources are capable of directly driving a doubly terminated 75 ohm coaxial cable. All three current outputs should have similar output loads whether or not (See Datasheet)"
part D pins: 1 GND (power) "Ground. All GND pins must be connected.", 2 GND (power) "Ground. All GND pins must be connected.", 11 ~{BLANK} (in) "Composite Blank Control Input (TTL Compatible). A Logic 0 on this control input drives the analog outputs, IOR, IOB, and IOG, to the blanking level. The B\L\A\N\K\ signal is latched on the rising edge of CLOCK. While (See Datasheet)", 12 ~{SYNC} (in) "Composite Sync Control Input (TTL Compatible). A Logic 0 on the S\Y\N\C\ input switches off a 40 IRE current source. This is internally connected to the IOG analog output. S\Y\N\C\ does not override any other control or data (See Datasheet)", 13 VAA (power) "Analog Power Supply (5 V +/- 5%). All VAA pins on the ADV7125 must be connected.", 14 GND (power) "Ground. All GND pins must be connected.", 15 GND (power) "Ground. All GND pins must be connected.", 24 CLOCK (in) "Clock Input (TTL Compatible). The rising edge of CLOCK latches the R0 to R7, G0 to G7, B0 to B7, S\Y\N\C\, and B\L\A\N\K\ pixel and control inputs. It is typically the pixel clock rate of the video system. CLOCK should be (See Datasheet)", 25 GND (power) "Ground. All GND pins must be connected.", 26 GND (power) "Ground. All GND pins must be connected.", 29 VAA (power) "Analog Power Supply (5 V +/- 5%). All VAA pins on the ADV7125 must be connected.", 30 VAA (power) "Analog Power Supply (5 V +/- 5%). All VAA pins on the ADV7125 must be connected.", 35 COMP "Compensation Pin. This is a compensation pin for the internal reference amplifier. A 0.1 uF ceramic capacitor must be connected between COMP and VAA.", 36 VREF (io) "Voltage Reference Input for DACs or Voltage Reference Output (1.235 V).", 37 RSET (in) "A resistor (RSET) connected between this pin and GND controls the magnitude of the full-scale video signal. Note that the IRE relationships are maintained, regardless of the full-scale output current. The relationship (See Datasheet)", 38 ~{PSAVE} (in) "Power Save Control Pin. Reduced power consumption is available on the ADV7125 when this pin is active.", 39 GND (power) "Ground. All GND pins must be connected.", 40 GND (power) "Ground. All GND pins must be connected."

## AD55/035Z-0REEL
designator U?
3 Channel 8-Bit CMOS High Speed Video Digital-to-Analog Converter, -40 to +85 degC, ST-48, Pb-Free, Reel; Generic Part Number: ADV7125; Manufacturer: Analog Devices; PartNumber: AD55/035Z-0REEL; # DAC Outputs: 3; Max V+: 5.25V; Op Pwr Diss: 485mW; Resolution (Bits): 8; Single Supply: No; DatasheetVersion: Rev.C; PackageVersion: revA; PackageReference: ST-48; PackageDescription: 48-Pin Thin Quad Flat Pack 0.5 mm Pitch; Supplier 1: Mouser; Supplier Part Number 1: N/A; Packing: Reel; RoHS: Y; Mounting Technology: Surface Mount; ComponentLink1Description: Manufacturer URL; ComponentLink1URL: http://www.analog.com/en/index.html; ComponentLink2Description: Datasheet; ComponentLink2URL: http://www.analog.com/static/imported-files/data_sheets/ADV7125.pdf; ComponentLink3Description: Package Specification; ComponentLink3URL: http://www.analog.com/static/imported-files/packages/PKG_PDF/LQFP%28ST%29/ST_48.pdf; ComponentLink4Description: Product URL; ComponentLink4URL: http://www.analog.com/en/digital-to-analog-converters/da-converters/adv7125/products/product.html
footprint ST-48_N (Thin QFP, 48-Leads, Body 7x7mm, Pitch 0.5mm, IPC Medium Density)
footprint ST-48_L (Thin QFP, 48-Leads, Body 7x7mm, Pitch 0.5mm, IPC High Density)
footprint ST-48_M (Thin QFP, 48-Leads, Body 7x7mm, Pitch 0.5mm, IPC Low Density)
part A pins: 33 ~{IOR} (out) "Differential Red, Green, and Blue Current Outputs (High Impedance Current Sources). These RGB video outputs are specified to directly drive RS-343A and RS-170 video levels into a doubly terminated 75 ohm load. If the (See Datasheet)", 34 IOR (out) "Red, Green, and Blue Current Outputs. These high impedance current sources are capable of directly driving a doubly terminated 75 ohm coaxial cable. All three current outputs should have similar output loads whether or not (See Datasheet)", 41 R0 (in) "Red Pixel Data Inputs (TTL Compatible). Pixel data is latched on the rising edge of CLOCK. R0, G0, and B0 are the least significant data bits. Unused pixel data inputs should be connected to either the regular printed (See Datasheet)", 42 R1 (in) "Red Pixel Data Inputs (TTL Compatible). Pixel data is latched on the rising edge of CLOCK. R0, G0, and B0 are the least significant data bits. Unused pixel data inputs should be connected to either the regular printed (See Datasheet)", 43 R2 (in) "Red Pixel Data Inputs (TTL Compatible). Pixel data is latched on the rising edge of CLOCK. R0, G0, and B0 are the least significant data bits. Unused pixel data inputs should be connected to either the regular printed (See Datasheet)", 44 R3 (in) "Red Pixel Data Inputs (TTL Compatible). Pixel data is latched on the rising edge of CLOCK. R0, G0, and B0 are the least significant data bits. Unused pixel data inputs should be connected to either the regular printed (See Datasheet)", 45 R4 (in) "Red Pixel Data Inputs (TTL Compatible). Pixel data is latched on the rising edge of CLOCK. R0, G0, and B0 are the least significant data bits. Unused pixel data inputs should be connected to either the regular printed (See Datasheet)", 46 R5 (in) "Red Pixel Data Inputs (TTL Compatible). Pixel data is latched on the rising edge of CLOCK. R0, G0, and B0 are the least significant data bits. Unused pixel data inputs should be connected to either the regular printed (See Datasheet)", 47 R6 (in) "Red Pixel Data Inputs (TTL Compatible). Pixel data is latched on the rising edge of CLOCK. R0, G0, and B0 are the least significant data bits. Unused pixel data inputs should be connected to either the regular printed (See Datasheet)", 48 R7 (in) "Red Pixel Data Inputs (TTL Compatible). Pixel data is latched on the rising edge of CLOCK. R0, G0, and B0 are the least significant data bits. Unused pixel data inputs should be connected to either the regular printed (See Datasheet)"
part B pins: 3 G0 (in) "Green Pixel Data Inputs (TTL Compatible). Pixel data is latched on the rising edge of CLOCK. R0, G0, and B0 are the least significant data bits. Unused pixel data inputs should be connected to either the regular printed (See Datasheet)", 4 G1 (in) "Green Pixel Data Inputs (TTL Compatible). Pixel data is latched on the rising edge of CLOCK. R0, G0, and B0 are the least significant data bits. Unused pixel data inputs should be connected to either the regular printed (See Datasheet)", 5 G2 (in) "Green Pixel Data Inputs (TTL Compatible). Pixel data is latched on the rising edge of CLOCK. R0, G0, and B0 are the least significant data bits. Unused pixel data inputs should be connected to either the regular printed (See Datasheet)", 6 G3 (in) "Green Pixel Data Inputs (TTL Compatible). Pixel data is latched on the rising edge of CLOCK. R0, G0, and B0 are the least significant data bits. Unused pixel data inputs should be connected to either the regular printed (See Datasheet)", 7 G4 (in) "Green Pixel Data Inputs (TTL Compatible). Pixel data is latched on the rising edge of CLOCK. R0, G0, and B0 are the least significant data bits. Unused pixel data inputs should be connected to either the regular printed (See Datasheet)", 8 G5 (in) "Green Pixel Data Inputs (TTL Compatible). Pixel data is latched on the rising edge of CLOCK. R0, G0, and B0 are the least significant data bits. Unused pixel data inputs should be connected to either the regular printed (See Datasheet)", 9 G6 (in) "Green Pixel Data Inputs (TTL Compatible). Pixel data is latched on the rising edge of CLOCK. R0, G0, and B0 are the least significant data bits. Unused pixel data inputs should be connected to either the regular printed (See Datasheet)", 10 G7 (in) "Green Pixel Data Inputs (TTL Compatible). Pixel data is latched on the rising edge of CLOCK. R0, G0, and B0 are the least significant data bits. Unused pixel data inputs should be connected to either the regular printed (See Datasheet)", 31 ~{IOG} (out) "Differential Red, Green, and Blue Current Outputs (High Impedance Current Sources). These RGB video outputs are specified to directly drive RS-343A and RS-170 video levels into a doubly terminated 75 ohm load. If the (See Datasheet)", 32 IOG (out) "Red, Green, and Blue Current Outputs. These high impedance current sources are capable of directly driving a doubly terminated 75 ohm coaxial cable. All three current outputs should have similar output loads whether or not (See Datasheet)"
part C pins: 16 B0 (in) "Blue Pixel Data Inputs (TTL Compatible). Pixel data is latched on the rising edge of CLOCK. R0, G0, and B0 are the least significant data bits. Unused pixel data inputs should be connected to either the regular printed (See Datasheet)", 17 B1 (in) "Blue Pixel Data Inputs (TTL Compatible). Pixel data is latched on the rising edge of CLOCK. R0, G0, and B0 are the least significant data bits. Unused pixel data inputs should be connected to either the regular printed (See Datasheet)", 18 B2 (in) "Blue Pixel Data Inputs (TTL Compatible). Pixel data is latched on the rising edge of CLOCK. R0, G0, and B0 are the least significant data bits. Unused pixel data inputs should be connected to either the regular printed (See Datasheet)", 19 B3 (in) "Blue Pixel Data Inputs (TTL Compatible). Pixel data is latched on the rising edge of CLOCK. R0, G0, and B0 are the least significant data bits. Unused pixel data inputs should be connected to either the regular printed (See Datasheet)", 20 B4 (in) "Blue Pixel Data Inputs (TTL Compatible). Pixel data is latched on the rising edge of CLOCK. R0, G0, and B0 are the least significant data bits. Unused pixel data inputs should be connected to either the regular printed (See Datasheet)", 21 B5 (in) "Blue Pixel Data Inputs (TTL Compatible). Pixel data is latched on the rising edge of CLOCK. R0, G0, and B0 are the least significant data bits. Unused pixel data inputs should be connected to either the regular printed (See Datasheet)", 22 B6 (in) "Blue Pixel Data Inputs (TTL Compatible). Pixel data is latched on the rising edge of CLOCK. R0, G0, and B0 are the least significant data bits. Unused pixel data inputs should be connected to either the regular printed (See Datasheet)", 23 B7 (in) "Blue Pixel Data Inputs (TTL Compatible). Pixel data is latched on the rising edge of CLOCK. R0, G0, and B0 are the least significant data bits. Unused pixel data inputs should be connected to either the regular printed (See Datasheet)", 27 ~{IOB} (out) "Differential Red, Green, and Blue Current Outputs (High Impedance Current Sources). These RGB video outputs are specified to directly drive RS-343A and RS-170 video levels into a doubly terminated 75 ohm load. If the (See Datasheet)", 28 IOB (out) "Red, Green, and Blue Current Outputs. These high impedance current sources are capable of directly driving a doubly terminated 75 ohm coaxial cable. All three current outputs should have similar output loads whether or not (See Datasheet)"
part D pins: 1 GND (power) "Ground. All GND pins must be connected.", 2 GND (power) "Ground. All GND pins must be connected.", 11 ~{BLANK} (in) "Composite Blank Control Input (TTL Compatible). A Logic 0 on this control input drives the analog outputs, IOR, IOB, and IOG, to the blanking level. The B\L\A\N\K\ signal is latched on the rising edge of CLOCK. While (See Datasheet)", 12 ~{SYNC} (in) "Composite Sync Control Input (TTL Compatible). A Logic 0 on the S\Y\N\C\ input switches off a 40 IRE current source. This is internally connected to the IOG analog output. S\Y\N\C\ does not override any other control or data (See Datasheet)", 13 VAA (power) "Analog Power Supply (5 V +/- 5%). All VAA pins on the ADV7125 must be connected.", 14 GND (power) "Ground. All GND pins must be connected.", 15 GND (power) "Ground. All GND pins must be connected.", 24 CLOCK (in) "Clock Input (TTL Compatible). The rising edge of CLOCK latches the R0 to R7, G0 to G7, B0 to B7, S\Y\N\C\, and B\L\A\N\K\ pixel and control inputs. It is typically the pixel clock rate of the video system. CLOCK should be (See Datasheet)", 25 GND (power) "Ground. All GND pins must be connected.", 26 GND (power) "Ground. All GND pins must be connected.", 29 VAA (power) "Analog Power Supply (5 V +/- 5%). All VAA pins on the ADV7125 must be connected.", 30 VAA (power) "Analog Power Supply (5 V +/- 5%). All VAA pins on the ADV7125 must be connected.", 35 COMP "Compensation Pin. This is a compensation pin for the internal reference amplifier. A 0.1 uF ceramic capacitor must be connected between COMP and VAA.", 36 VREF (io) "Voltage Reference Input for DACs or Voltage Reference Output (1.235 V).", 37 RSET (in) "A resistor (RSET) connected between this pin and GND controls the magnitude of the full-scale video signal. Note that the IRE relationships are maintained, regardless of the full-scale output current. The relationship (See Datasheet)", 38 ~{PSAVE} (in) "Power Save Control Pin. Reduced power consumption is available on the ADV7125 when this pin is active.", 39 GND (power) "Ground. All GND pins must be connected.", 40 GND (power) "Ground. All GND pins must be connected."

## AD420AN-32
designator U?
Single 16-Bit Digital-to-Analog Converter with Serial Interface, -40 to +85 degC, N-24-1, Tube; Generic Part Number: AD420; Manufacturer: Analog Devices; PartNumber: AD420AN-32; # DAC Outputs: 1; Max V+: 32V; Op Pwr Diss: 176mW; Resolution (Bits): 16; Settling Time: 2.5ms; Single Supply: Yes; DatasheetVersion: Rev.H; PackageVersion: 071006-A; PackageReference: N-24-1; PackageDescription: 24-Lead Plastic Dual In-Line Package [PDIP] Narrow Body; Supplier 1: Digi-Key; Supplier Part Number 1: AD420AN-32-ND; Supplier 2: Mouser; Supplier Part Number 2: 584-AD420AN-32; Packing: Tube; RoHS: N; Mounting Technology: Through Hole; Code_JEDEC: MS-001; ComponentLink1Description: Manufacturer URL; ComponentLink1URL: http://www.analog.com/en/index.html; ComponentLink2Description: Datasheet; ComponentLink2URL: http://www.analog.com/static/imported-files/data_sheets/AD420.pdf; ComponentLink3Description: Package Specification; ComponentLink3URL: http://www.analog.com/static/imported-files/packages/50726455539629N_24_1.pdf; ComponentLink4Description: Product URL; ComponentLink4URL: http://www.analog.com/en/digital-to-analog-converters/da-converters/ad420/products/product.html
footprint N-24-1 (DIP, 24-Leads, Row Spacing 7.62mm, Pitch 2.54mm, Body 31.9x6.6mm)
pins: 1 NC "No Connection. No internal connections inside device.", 2 VLL (power) "Auxiliary buffered +4.5 V digital logic voltage. This pin is the internal supply voltage for the digital circuitry and can be used as a termination for pull-up resistors. An external +5 V power supply can be connected to VLL.(See Datasheet)", 3 FAULT DETECT (oc) "FAULT DETECT, connected to a pull-up resistor, is asserted low when the output current does not match the DAC’s programmed value, for example, in case the current loop is broken.", 4 RANGE SELECT 2 (in) "Selects the converter’s output operating range. One output voltage range and three output current ranges are available.", 5 RANGE SELECT 1 (in) "Selects the converter’s output operating range. One output voltage range and three output current ranges are available.", 6 CLEAR (in) "Valid VIH unconditionally forces the output to go to the minimum of its programmed range. After CLEAR is removed the DAC output will remain at this value. The data in the input register is unaffected.", 7 LATCH (in) "In the 3-wire interface mode a rising edge parallel loads the serial input register data into the DAC. To use the asynchronous mode connect LATCH through a current limiting resistor to VCC.", 8 CLOCK (in) "Data Clock Input. The clock period is equal to the input data bit rate in the 3-wire interface mode and is 16 times the bit rate in asynchronous mode.", 9 DATA IN (in) "Serial Data Input.", 10 DATA OUT (out) "Serial Data Output. In the 3-wire interface mode, this output can be used for daisy-chaining multiple AD420s. In the asynchronous mode a positive pulse will indicate a framing error after the stop-bit is received.", 11 GND (power) "Ground (Common).", 12 NC "No Connection. No internal connections inside device.", 13 NC "No Connection. No internal connections inside device.", 14 REF OUT (out) "+5 V Reference Output.", 15 REF IN (in) "Reference Input.", 16 OFFSET TRIM (in) "Offset Adjust.", 17 VOUT (out) "Voltage Output.", 18 IOUT (out) "Current Output.", 19 BOOST "Connect to an external transistor to reduce the power dissipated in the AD420 output transistor, if desired.", 20 CAP 1 "These pins are used for internal filtering. Connect capacitors between each of these pins and VCC. Refer to the description of current output operation.", 21 CAP 2 "These pins are used for internal filtering. Connect capacitors between each of these pins and VCC. Refer to the description of current output operation.", 22 NC "No Connection. Do not connect anything to this pin.", 23 VCC (power) "Power Supply Input. The VCC pin should always be decoupled to GND with a 0.1 uF capacitor. See the Power Supplies and Decoupling section.", 24 NC "No Connection. No internal connections inside device."